# Altium schematic symbol library VESA-ESP_SCH_LIB.SchLib: 21 symbols
Pins are listed as number, name and electrical type; pins without a type are passive.

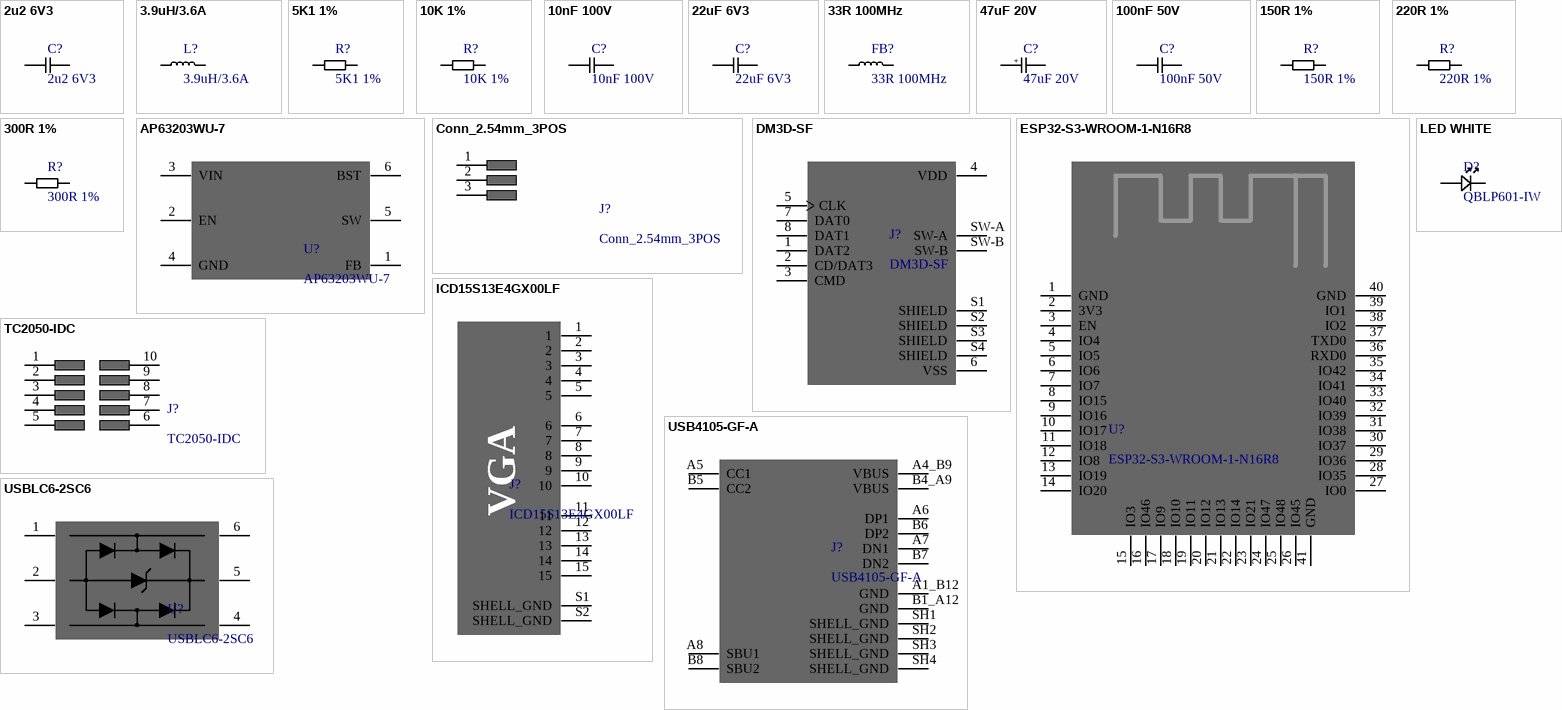
[diagram p0: symbols 2u2 6V3 to USBLC6-2SC6]

## 2u2 6V3
designator C?
2.2 µF ±10% 6.3V Ceramic Capacitor X7R 0603 (1608 Metric); MPN: GCM188R70J225KE22D
footprint CAPC1608X06N (Chip Capacitor, 2-Leads, Body 1.60x0.80mm, IPC Medium Density)
pins: 1, 2

## 3.9uH/3.6A
designator L?
FIXED IND 3.9UH 3.6A 65 MOHM SMD; MPN: SDE0604A-3R9M
footprint SDE0604A-3R9M
pins: 1, 2

## 5K1 1%
designator R?
5.1 kOhms ±1% 0.1W, 1/10W Chip Resistor 0603 (1608 Metric) Automotive AEC-Q200 Thick Film; MPN: ERJ-3EKF5101V
footprint RESC1608X06N (Chip Resistor, 2-Leads, Body 1.60x0.80mm, IPC Medium Density)
pins: 1, 2

## 10K 1%
designator R?
10 kOhms ±1% 0.1W, 1/10W Chip Resistor 0603 (1608 Metric) Automotive AEC-Q200 Thick Film; MPN: ERJ-3EKF1002V
footprint RESC1608X06N (Chip Resistor, 2-Leads, Body 1.60x0.80mm, IPC Medium Density)
pins: 1, 2

## 10nF 100V
designator C?
10000 pF ±10% 100V Ceramic Capacitor X7R 0603 (1608 Metric); MPN: GCM188R72A103KA37D
footprint CAPC1608X06N (Chip Capacitor, 2-Leads, Body 1.60x0.80mm, IPC Medium Density)
pins: 1, 2

## 22uF 6V3
designator C?
22 µF ±20% 6.3V Ceramic Capacitor X5R 0603 (1608 Metric); MPN: GRM188R60J226MEA0D
footprint CAPC1608X06N (Chip Capacitor, 2-Leads, Body 1.60x0.80mm, IPC Medium Density)
pins: 1, 2

## 33R 100MHz
designator FB?
33 Ohms @ 100 MHz 1 Power Line Ferrite Bead 0603 (1608 Metric) 3A 25mOhm; MPN: BLM18PG330SN1D
footprint INDC1608X06N (Chip Inductor, 2-Leads, Body 1.60x0.80mm, IPC Medium Density)
pins: 1, 2

## 47uF 20V
designator C?
47 µF 16 V Aluminum Electrolytic Capacitors Radial, Can - SMD 2000 Hrs @ 105°C; Manufacturer Part Number 1: 865080342006
footprint 865080342006
pins: 1, 2
text: +

## 100nF 50V
designator C?
0.1 µF ±10% 50V Ceramic Capacitor X7R 0603 (1608 Metric); MPN: GCM188R71H104KA57D
footprint CAPC1608X06N (Chip Capacitor, 2-Leads, Body 1.60x0.80mm, IPC Medium Density)
pins: 1, 2

## 150R 1%
designator R?
150 Ohms ±1% 0.1W, 1/10W Chip Resistor 0603 (1608 Metric) Automotive AEC-Q200 Thick Film; MPN: ERJ-3EKF1500V
footprint RESC1608X06N (Chip Resistor, 2-Leads, Body 1.60x0.80mm, IPC Medium Density)
pins: 1, 2

## 220R 1%
designator R?
220 Ohms ±1% 0.1W, 1/10W Chip Resistor 0603 (1608 Metric) Automotive AEC-Q200 Thick Film; MPN: ERJ-3EKF2200V
footprint RESC1608X06N (Chip Resistor, 2-Leads, Body 1.60x0.80mm, IPC Medium Density)
pins: 1, 2

## 300R 1%
designator R?
300 Ohms ±1% 0.1W, 1/10W Chip Resistor 0603 (1608 Metric) Automotive AEC-Q200 Thick Film; MPN: ERJ-3EKF3000V
footprint RESC1608X06N (Chip Resistor, 2-Leads, Body 1.60x0.80mm, IPC Medium Density)
pins: 1, 2

## AP63203WU-7
designator U?
Buck Switching Regulator IC Positive Fixed 3.3V 1 Output 2A SOT-23-6 Thin, TSOT-23-6; MPN: AP63203WU-7
footprint SOT95P245X100-6N (SOT23, 6-Leads, Body 2.90x2.45mm, Pitch 0.95mm, IPC Medium Density)
pins: 1 FB, 2 EN, 3 VIN, 4 GND, 5 SW, 6 BST

## Conn_2.54mm_3POS
designator J?
footprint CONN_2.54MM_3POS
pins: 1, 2, 3

## DM3D-SF
designator J?
10 (8 + 2) Position Card Connector Secure Digital - microSD™ Surface Mount, Right Angle Gold; MPN: DM3D-SF
footprint DM3D-SF
pins: 1 DAT2, 2 CD/DAT3, 3 CMD, 4 VDD, 5 CLK, 6 VSS, 7 DAT0, 8 DAT1, S1 SHIELD, S2 SHIELD, S3 SHIELD, S4 SHIELD, SW-A, SW-B

## ESP32-S3-WROOM-1-N16R8
designator U?
Bluetooth, WiFi 802.11b/g/n, Bluetooth v5.0 Transceiver Module 2.4GHz PCB Trace Surface Mount; MPN: ESP32-S3-WROOM-1-N16R8
footprint ESP32-S3-WROOM
pins: 1 GND, 2 3V3, 3 EN, 4 IO4, 5 IO5, 6 IO6, 7 IO7, 8 IO15, 9 IO16, 10 IO17, 11 IO18, 12 IO8, 13 IO19, 14 IO20, 15 IO3, 16 IO46, 17 IO9, 18 IO10, 19 IO11, 20 IO12, 21 IO13, 22 IO14, 23 IO21, 24 IO47, 25 IO48, 26 IO45, 27 IO0, 28 IO35, 29 IO36, 30 IO37, 31 IO38, 32 IO39, 33 IO40, 34 IO41, 35 IO42, 36 RXD0, 37 TXD0, 38 IO2, 39 IO1, 40 GND, 41 GND

## ICD15S13E4GX00LF
designator J?
15 Position D-Sub, High Density Receptacle, Female Sockets Connector; MPN: ICD15S13E4GX00LF
footprint ICD15S13E4GX00LF
pins: 1, 2, 3, 4, 5, 6, 7, 8, 9, 10, 11, 12, 13, 14, 15, S1 SHELL_GND, S2 SHELL_GND
text: VGA

## LED WHITE
designator D?, comment QBLP601-IW
White LED Indication - Discrete 3.2V 0603 (1608 Metric); MPN: QBLP601-IW
footprint LEDC1608X06N (Chip LED, 2-Leads, Body 1.60x0.80mm, IPC Medium Density)
pins: 1, 2

## TC2050-IDC
designator J?
MPN: TC2050-IDC
footprint TAG_CONNECT
pins: 1, 2, 3, 4, 5, 6, 7, 8, 9, 10

## USB4105-GF-A
designator J?
USB-C (USB TYPE-C) USB 2.0 Receptacle Connector 24 (16+8 Dummy) Position Surface Mount, Right Angle; Through Hole; MPN: USB4105-GF-A
footprint USB4105-GF-A
pins: A1_B12 GND, A4_B9 VBUS, A5 CC1, A6 DP1, A7 DN1, A8 SBU1, B1_A12 GND, B4_A9 VBUS, B5 CC2, B6 DP2, B7 DN2, B8 SBU2, SH1 SHELL_GND, SH2 SHELL_GND, SH3 SHELL_GND, SH4 SHELL_GND

## USBLC6-2SC6
designator U?
17V Clamp 5A (8/20µs) Ipp Tvs Diode Surface Mount SOT-23-6; MPN: USBLC6-2SC6
footprint SOT95P245X100-6N (SOT23, 6-Leads, Body 2.90x2.45mm, Pitch 0.95mm, IPC Medium Density)
pins: 1, 2, 3, 4, 5, 6